# Altium schematic symbol library Christmas-2023_Soundboard.SchLib: 26 symbols
Pins are listed as number, name and electrical type; pins without a type are passive.

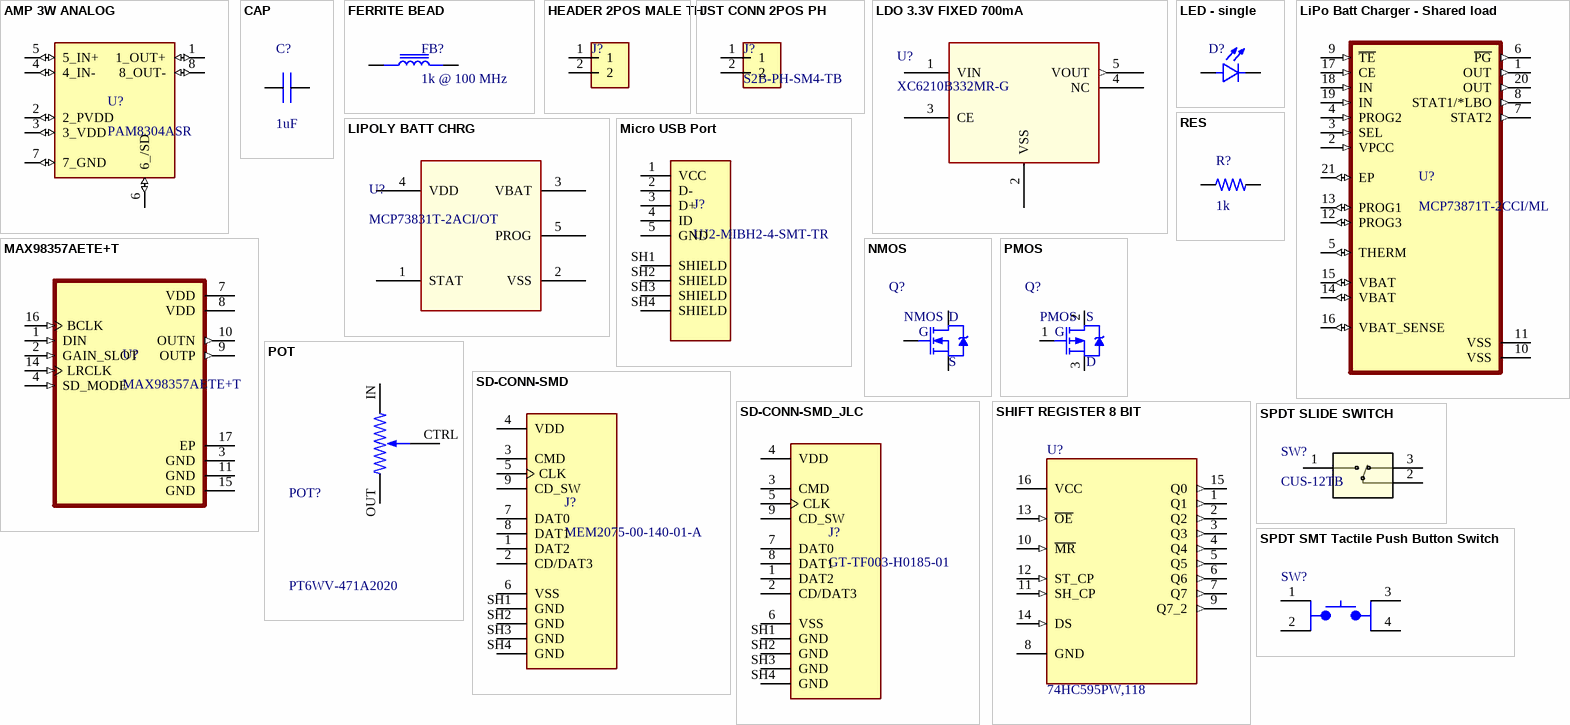
[diagram p0: symbols AMP 3W ANALOG to SPDT SMT Tactile Push Button Switch]

## AMP 3W ANALOG
designator U?, comment PAM8304ASR
Amplifier IC 1-Channel (Mono) Class D 8L-MSOP; MFR: Diodes Inc.; MFR PN: PAM8304ASR; Type: SMD
footprint 8-TSSOP
pins: 1 1_OUT+ (io), 2 2_PVDD (io), 3 3_VDD (io), 4 4_IN- (io), 5 5_IN+ (io), 6 6_/SD (io), 7 7_GND (io), 8 8_OUT- (io)

## CAP
designator C?  value 1uF  (hidden comment: CAP)
Capaicitor; MFR: *; MFR PN: *
footprint 0603-CAP
pins: 1, 2

## FERRITE BEAD
designator FB?, comment 1k @ 100 MHz
MFR: TDK; MFR PN: MMZ1608Y102BTD25; Type: SMD
footprint 0603-FB
pins: 1, 2

## HEADER 2POS MALE TH
designator J?
footprint 2-pos, 0.1" TH header
pins: 1, 2

## JST CONN 2POS PH
designator J?, comment S2B-PH-SM4-TB
Connector Header Surface Mount, Right Angle 2 position 0.079 (2.00mm); MFR PN: S2B-PH-SM4-TB(TF)(SN); MFR: JST Sales; Type: SMD
footprint JST_PH-2POS-SMT-RA
pins: 1, 2

## LDO 3.3V FIXED 700mA
designator U?, comment XC6210B332MR-G
No Description Available; MFR: Torex Semiconductor; MFR PN: XC6210B332MR-G; Type: SMD
footprint SOT-25-5
pins: 1 VIN (power), 2 VSS (power), 3 CE, 4 NC, 5 VOUT (out)

## LED - single
designator D?  (value not drawn)
LED; Color: *; MFR: *; MFR PN: *
footprint 0603-LED
pins: 1 A, 2 C

## LiPo Batt Charger - Shared load
designator U?, comment MCP73871T-2CCI/ML
Charger IC Lithium Ion/Polymer 20-QFN (4x4); MFR: Microchip Technology; Type: SMD; MFR PN: MCP73871T-2CCI/ML
footprint 20-VFQFN EXPOSED PAD
pins: 1 OUT (out), 2 VPCC (in), 3 SEL (in), 4 PROG2 (in), 5 THERM (io), 6 ~{PG} (out), 7 STAT2 (out), 8 STAT1/*LBO (out), 9 ~{TE} (in), 10 VSS (power), 11 VSS (power), 12 PROG3 (io), 13 PROG1 (io), 14 VBAT (io), 15 VBAT (io), 16 VBAT_SENSE (io), 17 CE (in), 18 IN (in), 19 IN (in), 20 OUT (out), 21 EP (io)

## LIPOLY BATT CHRG
designator U?, comment MCP73831T-2ACI/OT
No Description Available; MFR: Microchip; MFR PN: MCP73831T-2ACI/OT; Type: SMD
footprint SOT-23-5
pins: 1 STAT, 2 VSS, 3 VBAT, 4 VDD, 5 PROG

## MAX98357AETE+T
designator U?
I2S Audio DAC and amp; MFR: Analog Devices; MFR PN: MAX98357AETE+T; Type: SMD
footprint 16-WFQFN EXPOSED PAD
pins: 1 DIN (in), 2 GAIN_SLOT (in), 3 GND (power), 4 SD_MODE (in), 7 VDD (power), 8 VDD (power), 9 OUTP (out), 10 OUTN (out), 11 GND (power), 14 LRCLK (in), 15 GND (power), 16 BCLK (in), 17 EP (power)

## Micro USB Port
designator J?, comment UJ2-MIBH2-4-SMT-TR
Micro B, USB 2.0, 1.8 A, Right Angle, Surface Mount (SMT), USB Receptacle; MFR: CUI Devices; MFR PN: UJ2-MIBH2-4-SMT-TR
footprint USB MICRO CONN TH (CUI_UJ2-MIBH2-4-SMT-TR)
footprint USB MICRO JLC (UA0507065250-037-06)
pins: 1 VCC, 2 D-, 3 D+, 4 ID, 5 GND, SH1 SHIELD, SH2 SHIELD, SH3 SHIELD, SH4 SHIELD

## NMOS
designator Q?
N-Channel MOSFET; MFR PN: DMN63D8L; MFR: Diodes Incorporated; Type: SMD
footprint SOT-23
pins: 1 G, 2 S, 3 D

## PMOS
designator Q?
P-Channel MOSFET; MFR PN: BSS84-7-F; MFR: Diodes Incorporated; Type: SMD
footprint SOT-23
pins: 1 G, 2 D, 3 S

## POT
designator POT?, comment PT6WV-471A2020
POT 470 OHM 1/10W CARBON LINEAR; MFR: Bourns Inc.; MFR PN: PTL60-15R0-103B2; Value: 10k
footprint BIG SLIDE POT (PTL60-15R0-103B2)
pins: CTRL WIPER, IN INITIAL, OUT FINAL

## RES
designator R?  value 1k
Resistor; MFR PN: *; MFR: *; Type: SMD
footprint 0603-RES
pins: 1, 2

## SD-CONN-SMD
designator J?, comment MEM2075-00-140-01-A
10 (8 + 2) Position Card Connector Secure Digital - microSDâ„¢ Surface Mount, Right Angle Gold; MFR: GCT; MFR PN: MEM2075-00-140-01-A; Type: SMD
footprint GCT_MEM2075-00-140-01-A
pins: 1 DAT2, 2 CD/DAT3, 3 CMD, 4 VDD, 5 CLK, 6 VSS, 7 DAT0, 8 DAT1, 9 CD_SW, SH1 GND, SH2 GND, SH3 GND, SH4 GND

## SD-CONN-SMD_JLC
designator J?, comment GT-TF003-H0185-01
MFR: G-Switch; MFR PN: GT-TF003-H0185-01; Type: SMD
footprint GTTF003H018501
pins: 1 DAT2, 2 CD/DAT3, 3 CMD, 4 VDD, 5 CLK, 6 VSS, 7 DAT0, 8 DAT1, 9 CD_SW, SH1 GND, SH2 GND, SH3 GND, SH4 GND

## SHIFT REGISTER 8 BIT
designator U?, comment 74HC595PW,118
Shift Shift Register 1 Element 8 Bit 16-TSSOP; MFR: Nexperia USA Inc.; MFR PN: 74HC595PW,118; Type: SMD
footprint 16-TSSOP
pins: 1 Q1 (out), 2 Q2 (out), 3 Q3 (out), 4 Q4 (out), 5 Q5 (out), 6 Q6 (out), 7 Q7 (out), 8 GND, 9 Q7_2 (out), 10 ~{MR} (in), 11 SH_CP (in), 12 ST_CP (in), 13 ~{OE} (in), 14 DS (in), 15 Q0 (out), 16 VCC (power)

## SPDT SLIDE SWITCH
designator SW?, comment CUS-12TB
JLC Alternate: / SSSS811101; MFR: Nidec Copal Electronics; MFR PN: CUS-12TB; Type: SMD
footprint CUS-12TB_NDC
footprint SSSS811101 (JLCPCB)
pins: 1, 2, 3

## SPDT SMT Tactile Push Button Switch
designator SW?  (value not drawn)
MFR: TE Connectivity ALCOSWITCH Switches; MFR PN: FSM8JSMASTR; Type: SMD
footprint TACTILE SWITCH (From Sinking clock brain PCB)
pins: 1, 2, 3, 4

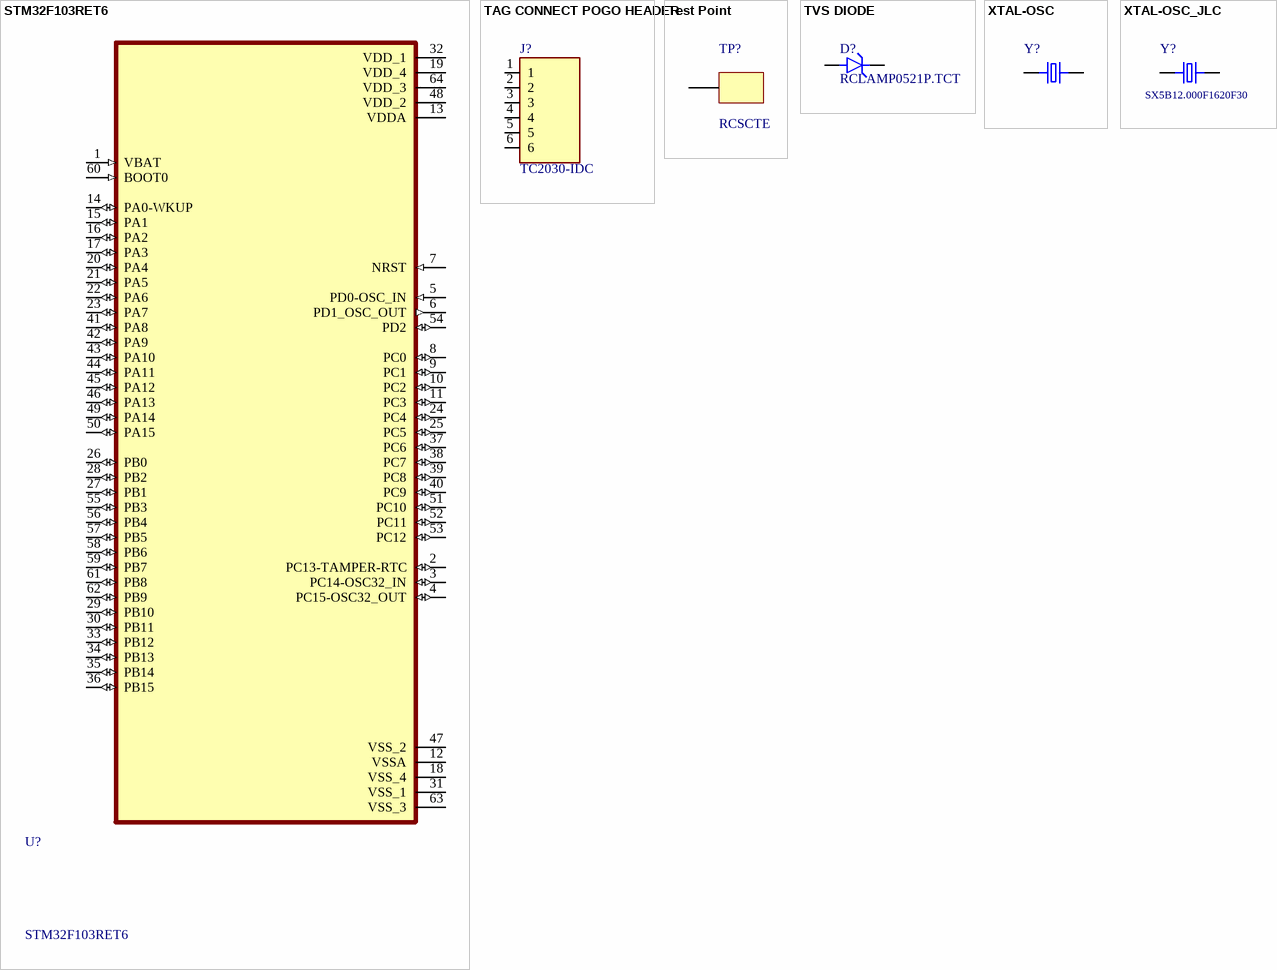
[diagram p1: symbols STM32F103RET6 to XTAL-OSC_JLC]

## STM32F103RET6
designator U?
STM32F103RET6, 32 bit ARM Cortex M3 Microcontroller 72MHz 256 kB Flash, 48 kB RAM, USB CAN I2C 64-Pin LQFP; MFR: STMicroelectronics; MFR PN: STM32F103RET6; Type: SMD
footprint LQFP-64
pins: 1 VBAT (in), 2 PC13-TAMPER-RTC (io), 3 PC14-OSC32_IN (io), 4 PC15-OSC32_OUT (io), 5 PD0-OSC_IN (in), 6 PD1_OSC_OUT (out), 7 NRST (in), 8 PC0 (io), 9 PC1 (io), 10 PC2 (io), 11 PC3 (io), 12 VSSA (power), 13 VDDA (power), 14 PA0-WKUP (io), 15 PA1 (io), 16 PA2 (io), 17 PA3 (io), 18 VSS_4 (power), 19 VDD_4 (power), 20 PA4 (io), 21 PA5 (io), 22 PA6 (io), 23 PA7 (io), 24 PC4 (io), 25 PC5 (io), 26 PB0 (io), 27 PB1 (io), 28 PB2 (io), 29 PB10 (io), 30 PB11 (io), 31 VSS_1 (power), 32 VDD_1 (power), 33 PB12 (io), 34 PB13 (io), 35 PB14 (io), 36 PB15 (io), 37 PC6 (io), 38 PC7 (io), 39 PC8 (io), 40 PC9 (io), 41 PA8 (io), 42 PA9 (io), 43 PA10 (io), 44 PA11 (io), 45 PA12 (io), 46 PA13 (io), 47 VSS_2 (power), 48 VDD_2 (power), 49 PA14 (io), 50 PA15 (io), 51 PC10 (io), 52 PC11 (io), 53 PC12 (io), 54 PD2 (io), 55 PB3 (io), 56 PB4 (io), 57 PB5 (io), 58 PB6 (io), 59 PB7 (io), 60 BOOT0 (in), 61 PB8 (io), 62 PB9 (io), 63 VSS_3 (power), 64 VDD_3 (power)

## TAG CONNECT POGO HEADER
designator J?, comment TC2030-IDC
"Plug of Nails" POGO Pin connector; MFR: Tag-Connect; MFR PN: TC2030-IDC
footprint TAG CONNECT TC2030IDC
footprint TAG CONNECT TC2030IDC - NO 3D MODEL
pins: 1, 2, 3, 4, 5, 6

## Test Point
designator TP?, comment RCSCTE
Test Point, Surface Mount; MFR: KOA Speer Electronics, Inc.; MFR PN: RCSCTE; Type: SMD
footprint RCWCTE
pins: 1 0

## TVS DIODE
designator D?, comment RCLAMP0521P.TCT
25V Clamp 4A (8/20µs) Ipp Tvs Diode Surface Mount SLP1006P2; MFR: Semtech Corporation; Type: SMD; MFR PN: RCLAMP0521P.TCT
footprint RCLAMP0521P.TCT
pins: A, K

## XTAL-OSC
designator Y?
SMD Tuning Fork Crystal
footprint ABLS-12.000MHZ-B2-T
pins: 1, 2

## XTAL-OSC_JLC
designator Y?, comment SX5B12.000F1620F30
SMD Tuning Fork Crystal; MFR: Shenzhen SCTF Elec; Frequency: 12MHz; MFR PN: SX5B12.000F1620F30; Type: SMD; JLC PN: C2901628
footprint SMD5032-4P
pins: 1, 2